# EAGLE library part TP4062 (library my_ic)
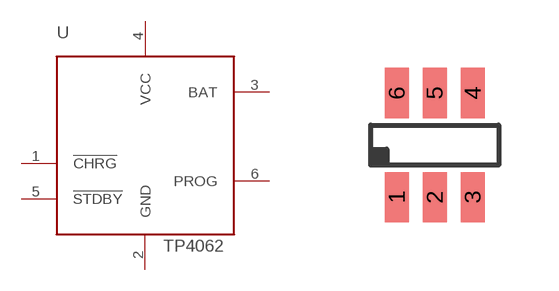
[diagram p27: symbol with the pads of SOT-23-6; footprint SOT-23-6]

Designator prefix -

## TP4062  [SOT-23-6]
1  !CHRG
2  GND
3  BAT
4  VCC
5  !STDBY
6  PROG

## Footprint SOT-23-6 (pad centres in mm)
smd 0.6 x 1.25: 1 -0.95,-1.3; 2 0,-1.3; 3 0.95,-1.3; 4 0.95,1.3; 5 0,1.3; 6 -0.95,1.3